# EAGLE library part 71016 (library memory-idt)
MEMORY CMOS SRAM, 1 Meg (64Kx16-Bit)
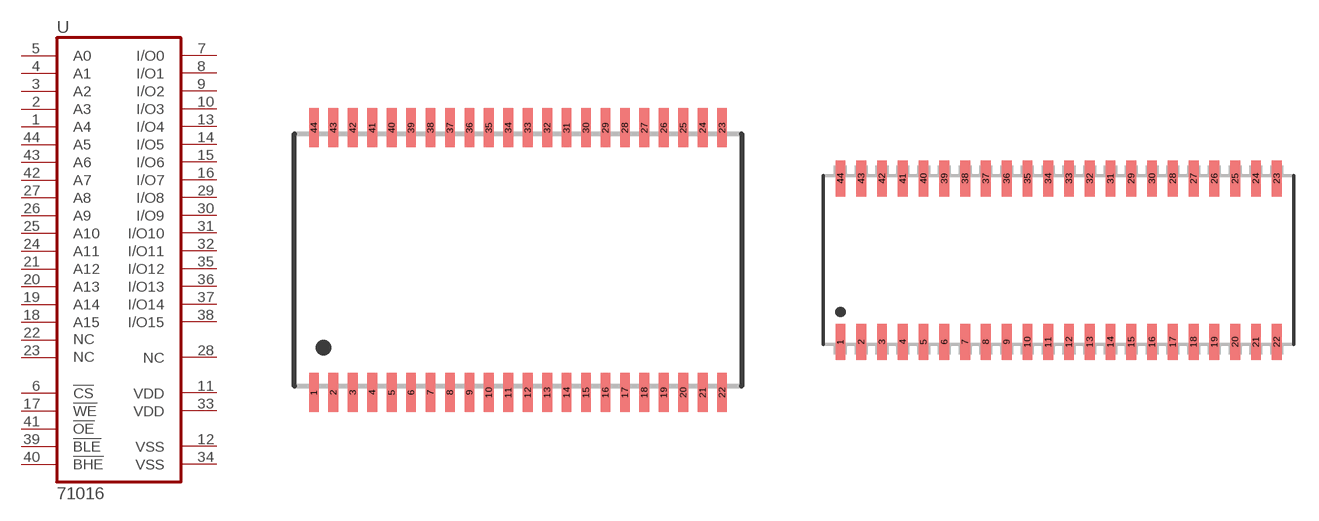
[diagram p300: symbol with the pads of TSOP44; footprints TSOP44, SO44-1]

Designator prefix U

## 71016PJ  [TSOP44]
1  A4  in
2  A3  in
3  A2  in
4  A1  in
5  A0  in
6  !CS!  in
7  I/O0
8  I/O1
9  I/O2
10  I/O3
11  VDD  pwr
12  VSS  pwr
13  I/O4
14  I/O5
15  I/O6
16  I/O7
17  !WE!  in
18  A15  in
19  A14  in
20  A13  in
21  A12  in
22  NC  nc
23  NC  nc
24  A11  in
25  A10  in
26  A9  in
27  A8  in
28  NC  nc
29  I/O8
30  I/O9
31  I/O10
32  I/O11
33  VDD  pwr
34  VSS  pwr
35  I/O12
36  I/O13
37  I/O14
38  I/O15
39  !BLE!  in
40  !BHE!  in
41  !OE!  in
42  A7  in
43  A6  in
44  A5  in

## 71016Y  [SO44-1]
Pads as for TSOP44

## Footprint TSOP44 (pad centres in mm)
TSOP44-2 TSOP Type II package
smd 0.4 x 1.6: 1 -8.4,-5.05; 2 -7.6,-5.05; 3 -6.8,-5.05; 4 -6,-5.05; 5 -5.2,-5.05; 6 -4.4,-5.05; 7 -3.6,-5.05; 8 -2.8,-5.05; 9 -2,-5.05; 10 -1.2,-5.05; 11 -0.4,-5.05; 12 0.4,-5.05; 13 1.2,-5.05; 14 2,-5.05; 15 2.8,-5.05; 16 3.6,-5.05; 17 4.4,-5.05; 18 5.2,-5.05; 19 6,-5.05; 20 6.8,-5.05; 21 7.6,-5.05; 22 8.4,-5.05; 23 8.4,5.85; 24 7.6,5.85; 25 6.8,5.85; 26 6,5.85; 27 5.2,5.85; 28 4.4,5.85; 29 3.6,5.85; 30 2.8,5.85; 31 2,5.85; 32 1.2,5.85; 33 0.4,5.85; 34 -0.4,5.85; 35 -1.2,5.85; 36 -2,5.85; 37 -2.8,5.85; 38 -3.6,5.85; 39 -4.4,5.85; 40 -5.2,5.85; 41 -6,5.85; 42 -6.8,5.85; 43 -7.6,5.85; 44 -8.4,5.85

## Footprint SO44-1 (pad centres in mm)
SO44-1 J LEADS body 10 mm
smd 0.6 x 2.2: 1 -13.335,-5; 2 -12.065,-5; 3 -10.795,-5; 4 -9.525,-5; 5 -8.255,-5; 6 -6.985,-5; 7 -5.715,-5; 8 -4.445,-5; 9 -3.175,-5; 10 -1.905,-5; 11 -0.635,-5; 12 0.635,-5; 13 1.905,-5; 14 3.175,-5; 15 4.445,-5; 16 5.715,-5; 17 6.985,-5; 18 8.255,-5; 19 9.525,-5; 20 10.795,-5; 21 12.065,-5; 22 13.335,-5; 23 13.335,5; 24 12.065,5; 25 10.795,5; 26 9.525,5; 27 8.255,5; 28 6.985,5; 29 4.445,5; 30 5.715,5; 31 3.175,5; 32 1.905,5; 33 0.635,5; 34 -0.635,5; 35 -1.905,5; 36 -3.175,5; 37 -4.445,5; 38 -5.715,5; 39 -6.985,5; 40 -8.255,5; 41 -9.525,5; 42 -10.795,5; 43 -12.065,5; 44 -13.335,5